# EAGLE library part MINI-USB-SHIELD (library connectors)
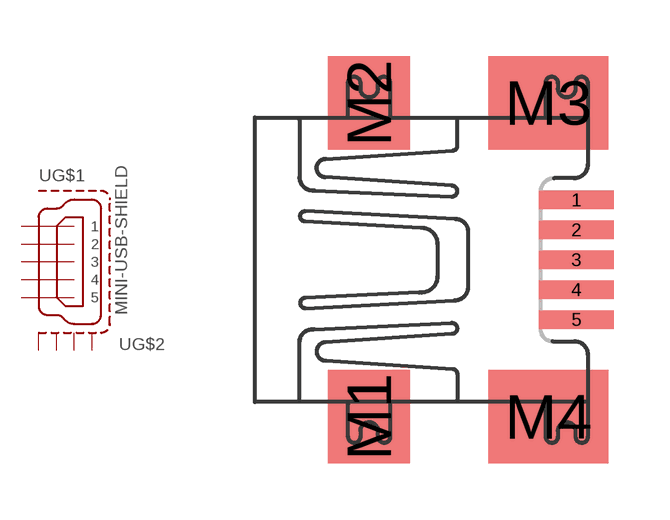
[diagram p9: symbol with the pads of MINI-USB; footprint MINI-USB]

Designator prefix -; gates G$1=MINI-USB G$2=USB-SHIELD

## MINI-USB-SHIELD  [MINI-USB]
1  G$1:1  in
2  G$1:2  in
3  G$1:3  in
4  G$1:4  in
5  G$1:5  in
M1  G$2:S1  pas
M2  G$2:S2  pas
M3  G$2:S3  pas
M4  G$2:S4  pas

## Footprint MINI-USB (pad centres in mm)
smd 2 x 0.5: 1 2.25,1.6; 2 2.25,0.8; 3 2.25,0; 4 2.25,-0.8; 5 2.25,-1.6
smd 2.2 x 2.5: M1 -3.3,-4.2; M2 -3.3,4.2
smd 3.2 x 2.5: M3 1.5,4.2; M4 1.5,-4.2